# EAGLE library part AT_1SH-A-06-XR-REVORDER (library added_parts)
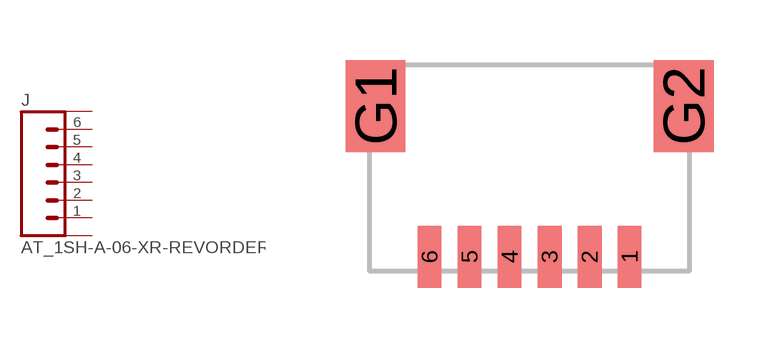
[diagram p9: symbol with the pads of AT_1SH-A-06-XR-REV; footprint AT_1SH-A-06-XR-REV]

Designator prefix J

## AT_1SH-A-06-XR-REVORDER  [AT_1SH-A-06-XR-REV]
1  1  pas
2  2  pas
3  3  pas
4  4  pas
5  5  pas
6  6  pas
G1  P$1  pas
G2  P$2  pas

## Footprint AT_1SH-A-06-XR-REV (pad centres in mm)
smd 0.6 x 1.55: 1 2.5,-2.275; 2 1.5,-2.275; 3 0.5,-2.275; 4 -0.5,-2.275; 5 -1.5,-2.275; 6 -2.5,-2.275
smd 1.5 x 2.3: G1 -3.85,1.5; G2 3.85,1.5